# Altium footprint library Imperial_Thru_Hole.PcbLib: 76 footprints (part 4 of 5)
Each footprint in its own frame and in the unit in brackets; x right, y up, seen from the top. Pads: shape width x height; smd on the part's side, far side on the other; paste and mask are expansions set on the pad; w line width, h text height; cw(c..) or ccw(c..) is an arc to the next point about the centre after c.
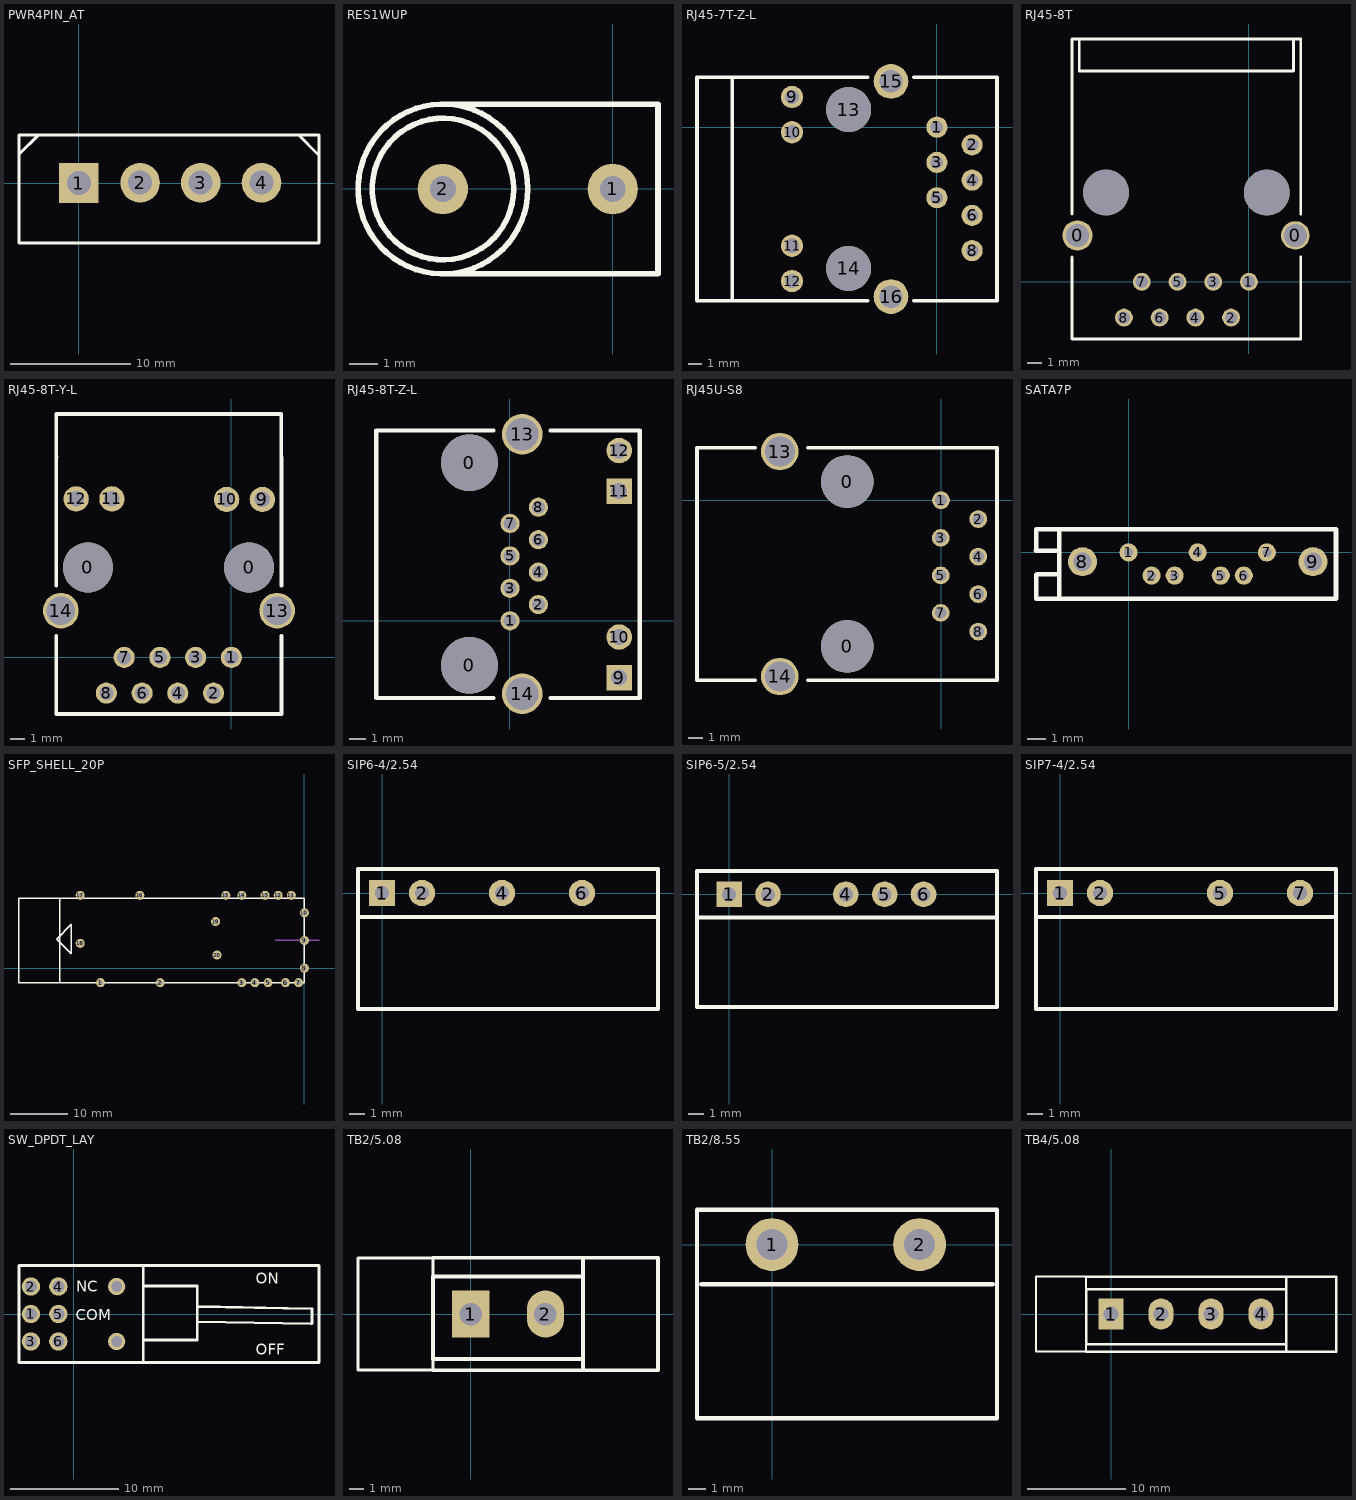
[diagram p3: the footprints below, top view; thin cyan lines are the x and y axes]

## PWR4PIN_AT [mm]
height 10
pads (4):
  rect 3.3x3.3 hole 2: 1(0,0)
  round 3.3 hole 2: 2(5.105,0.025) 3(10.16,0.025) 4(15.24,0.025)
Top Overlay:
  lines w0.254: -5.008,-5 20.041,-5 20.041,4 -4.962,4 ; -5,-5 -5,4 ; -5,2.4 -3.4,4 ; 18.364,3.988 19.964,2.388 ; 19.6,4 19.6,4

## RES1WUP [mil] "立式1W功率电阻"
height 472.44
pads (2):
  round 70 hole 36: 1(0,0) 2(-236.22,0)
Top Overlay:
  circle w7.87: c-236.22,0 r98.43
  circle w7.87: c-236.22,0 r118.11
  lines w7.87: -236.23,-118.12 62.99,-118.12 62.99,118.11 -236.22,118.11

## RJ45-7T-Z-L [mm] "HR871159防雷带磁体LEDRJ45座"
height 15.71
pads (15):
  round 1.524 hole 0.89: 1(0,0) 2(2.54,-1.27) 3(0,-2.54) 4(2.54,-3.81) 5(0,-5.08) 6(2.54,-6.35) 8(2.54,-8.89)
  round 1.6 hole 1.02: 9(-10.43,2.175) 10(-10.43,-0.365) 11(-10.43,-8.535) 12(-10.43,-11.075)
  round 3.25 hole 3.25 unplated: 13(-6.35,1.265) 14(-6.35,-10.165)
  round 2.5 hole 1.63: 15(-3.3,3.295) 16(-3.3,-12.195)
Top Overlay:
  lines w0.254: -14.732,-12.451 -14.732,3.551 ; -4.961,-12.5 -17.27,-12.5 -17.27,3.6 -4.961,3.6 ; -1.659,-12.5 4.33,-12.5 4.33,3.6 -1.659,3.6
3D body "User Library-RMS-001L-08A0-GY.STEP": height 3.3, standoff -13.5, extent -17,-12.446 4.3,3.554

## RJ45-8T [mil]
pads (12):
  round 85 hole 64: 0(-480,130)
  round 80 hole 64: 0(130,130)
  round 50 hole 35: 1(0,0) 2(-50,-100) 3(-100,0) 4(-150,-100) 5(-200,0) 6(-250,-100) 7(-300,0) 8(-350,-100)
  round 128 hole 128 unplated: ""(-400,250) ""(50,250)
Top Overlay:
  lines w8: -495,70 -495,-160 -275,-160 145,-160 145,70 ; -495,190 -495,680 -175,680 145,680 145,190 ; -475,680 -475,590 125,590 125,680

## RJ45-8T-Y-L [mm] "带磁芯LED的RJ45座"
height 14.2
pads (16):
  round 3.556 hole 3.556 unplated: 0(-10.197,6.392) 0(1.253,6.392)
  round 1.5 hole 1: 1(0,0) 2(-1.27,-2.54) 3(-2.54,0) 4(-3.81,-2.54) 5(-5.08,0) 6(-6.35,-2.54) 7(-7.62,0) 8(-8.89,-2.54)
  round 1.8 hole 1.1: 9(2.2,11.224) 10(-0.34,11.224) 11(-8.492,11.264) 12(-11.032,11.264)
  round 2.54 hole 2.032: 13(3.253,3.317) 14(-12.122,3.317)
Top Overlay:
  lines w0.254: -12.464,-4.025 3.55,-4.025 ; -12.443,-3.975 -12.443,1.524 ; -12.443,5.08 -12.443,14.231 ; -12.425,14.225 -12.45,14.25 -12.45,17.3 3.55,17.3 3.55,14.25 ; 3.564,-4.025 3.564,1.524 ; 3.564,5.08 3.564,14.237

## RJ45-8T-Z-L [mm] "下联型，带灯"
height 14.2
pads (16):
  round 3.556 hole 3.556 unplated: 0(-2.522,-2.788) 0(-2.522,9.912)
  round 1.2 hole 0.8: 1(0.018,0.006) 2(1.796,1.022) 3(0.018,2.038) 4(1.796,3.054) 5(0.018,4.07) 6(1.796,5.086) 7(0.018,6.102) 8(1.796,7.118)
  rect 1.6x1.6 hole 1: 9(6.858,-3.556) 11(6.858,8.128)
  round 1.6 hole 1: 10(6.858,-1.016) 12(6.858,10.668)
  round 2.54 hole 2.032: 13(0.78,11.69) 14(0.78,-4.566)
Top Overlay:
  lines w0.254: -1.016,-4.826 -8.364,-4.826 -8.364,11.938 -1.016,11.938 ; 2.54,-4.826 8.146,-4.826 8.146,11.938 2.54,11.938
3D body: height 7.62, standoff 6.1, extent -9.144,-3.302 -8.382,-0.635
3D body: height 7.62, standoff 6.1, extent -9.144,7.62 -8.382,10.287
3D body: height 9.14, standoff 0.03, extent -8.636,-3.81 7.62,11.43
3D body: height 3.56, standoff 2.03, extent -9.144,-2.921 -8.382,10.033

## RJ45U-S8 [mm] "上联型，不带灯"
height 14.2
pads (12):
  round 3.556 hole 3.556 unplated: 0(-6.35,-9.906) 0(-6.35,1.27)
  round 1.2 hole 0.8: 1(0,0) 2(2.522,-1.276) 3(-0.018,-2.546) 4(2.522,-3.816) 5(-0.018,-5.086) 6(2.522,-6.356) 7(-0.018,-7.626) 8(2.522,-8.896)
  round 2.54 hole 2.032: 13(-10.922,3.302) 14(-10.922,-11.938)
Top Overlay:
  lines w0.254: -12.582,-12.192 -16.528,-12.192 -16.528,3.556 -12.582,3.556 ; -9.026,-12.192 3.792,-12.192 3.792,3.556 -9.026,3.556
3D body: height 9.14, standoff 0.03, extent -16.51,-11.938 3.81,3.302
3D body: height 7.62, standoff 6.1, extent -17.018,-11.049 -16.256,1.905

## SATA7P [mm]
height 8.5
pads (9):
  round 1 hole 0.5: 1(0,0) 2(1.27,-1.27) 3(2.54,-1.27) 4(3.81,0) 5(5.08,-1.27) 6(6.35,-1.27) 7(7.62,0)
  round 1.6 hole 1: 8(-2.54,-0.508) 9(10.16,-0.508)
Top Overlay:
  lines w0.254: -3.81,-1.2 -5.06,-1.2 -5.08,-1.22 -5.08,-2.54 -3.81,-2.54 ; -3.81,0.1 -5.1,0.1 -5.08,0.12 -5.08,1.27 -3.81,1.27 ; -3.81,-2.54 11.43,-2.54 11.43,1.27 -3.81,1.27 ; -3.81,-2.54 -3.81,1.27
3D body: height 6.35, standoff 4.57, extent 0.254,-1.587 6.604,-0.953
3D body: height 6.6, standoff 4.57, extent -0.127,-1.079 6.858,0.064
3D body: height 6.35, standoff 4.57, extent 0.254,0 6.604,0.635
3D body: height 4.06, standoff 0.51, extent -3.556,-2.286 11.176,1.016

## SFP_SHELL_20P [mil] "SFP笼子20针"
height 600
pads (20):
  round 62 hole 30: 1(-1400,-100) 2(-990,-100) 3(-430,-100) 4(-340,-100) 5(-250,-100) 6(-130,-100) 7(-40,-100) 8(0,0) 9(0,190) 10(0,380) 11(-90,500) 12(-180,500) 13(-270,500) 14(-430,500) 15(-540,500) 16(-1130,500) 17(-1540,500) 18(-1540,170) 19(-610,320) 20(-600,90)
Top Overlay:
  lines w10: -1680,-100 -1680,480 ; -1960,-100 -1960,480 0,480 0,-100 -1960,-100 ; -1700,200 -1600,300 -1600,100 -1700,200
Mechanical 13:
  lines w10: -200,190 100,190
3D body: height 400, standoff 390, extent -1960,-100 0,480
3D body: height 400, standoff 1, extent -1960,470 0,480
3D body: height 400, standoff 1, extent -1960,-100 0,-90

## SIP6-4/2.54 [mil] "DC隔离模块,单路"
height 393.7
pads (4):
  rect 66x66 hole 36: 1(0,0)
  round 66 hole 36: 2(100,0) 4(300,0) 6(500,0)
Top Overlay:
  lines w10: -60,-60 690,-60 ; -60,-290 690,-290 690,60 -60,60 -60,-290

## SIP6-5/2.54 [mil] "DC隔离模块，正负双路"
height 393.7
pads (5):
  rect 66x66 hole 36: 1(0,0)
  round 66 hole 36: 2(100,0) 4(300,0) 5(400,0) 6(500,0)
Top Overlay:
  lines w10: -82.68,-60 688.98,-60 ; -82.68,-290 688.98,-290 688.98,60 -82.68,60 -82.68,-290

## SIP7-4/2.54 [mil] "夏普光耦SIP7封装"
height 10
pads (4):
  rect 66x66 hole 36: 1(0,0)
  round 66 hole 36: 2(100,0) 5(400,0) 7(600,0)
Top Overlay:
  lines w10: -60,-60 690,-60 ; -60,-290 -60,60 690,60 690,-290 -60,-290

## SW_DPDT_LAY [mm] "卧式2x2扭子开关"
height 8
pads (8):
  round 1.7 hole 1.1: 1(-3.97,0.01) 2(-3.97,2.55) 3(-3.97,-2.53) 4(-1.43,2.55) 5(-1.43,0.01) 6(-1.43,-2.53)
  round 1.6 hole 1: ""(3.97,-2.53) ""(3.97,2.55)
Top Overlay:
  lines w0.254: 6.43,-4.49 6.43,4.51 ; 6.43,-2.4 11.43,-2.4 ; 6.43,2.6 11.43,2.6 11.43,-2.4 ; 11.375,-2.345 11.43,-2.4 ; 11.43,0.7 22,0.5 ; 11.45,-0.7 22,-0.9 ; 22.05,-0.875 22.05,0.5 ; -5.07,-4.49 -5.07,4.51 22.7,4.51 22.7,-4.49 -5.07,-4.49
  text "OFF" at 16.85,-3.775 h1
  text "NC" at 0.25,2.075 h1
  text "COM" at 0.2,-0.55 h1
  text "ON" at 16.85,2.825 h1

## TB2/5.08 [mil] "菲尼克斯2pin座patch=5.08mm/200mil"
height 120
pads (2):
  rect 100x125 hole 60: 1(0,0)
  oval 100x125 hole 60: 2(200,0)
Top Overlay:
  lines w8: -100,-150 -100,150 ; -100,-150 -300,-150 -300,-100 -300,100 -300,150 -100,150 ; -100,-150 -100,150
  lines w10: -100,-150 500,-150 500,150 -100,150 ; 300,-150 300,150 ; 300,-120 -100,-120 -100,100 300,100
3D body: height 320, standoff 280, extent -260,-310 500,130
3D body: height 320, standoff 1, extent 420,-305 500,145
3D body: height 320, standoff 1, extent -300,-310 -220,140
3D body: height 320, standoff 1, extent -295,-20 500,140
3D body: height 40, standoff 1, extent -300,-310 500,130
3D body: height 199.92, standoff 120.08, extent -39.68,-280 40,20
3D body: height 199.92, standoff 120.08, extent 160.32,-280 240,20

## TB2/8.55 [mil] "8.55mm间距，PCB接线端子"
height 472.44
pads (2):
  round 120 hole 70: 1(0,0) 2(334.65,0)
Top Overlay:
  lines w10: -160,-90 500,-90 ; -170,-393.7 510,-393.7 510,78.74 -170,78.74 -170,-393.7

## TB4/5.08 [mil] "菲尼克斯4pin座patch=5.08mm/200mil"
height 120
pads (4):
  rect 100x125 hole 60: 1(0,0)
  oval 100x125 hole 60: 2(200,0) 3(400,0) 4(600,0)
Top Overlay:
  lines w8: -100,-150 -100,150 ; -100,-150 -300,-150 -300,-100 -300,100 -300,150 -100,150 ; -100,-150 -100,150
  lines w10: -100,-150 900,-150 900,150 -100,150 ; 700,-150 700,-120 ; 700,100 -100,100 -100,-120 700,-120 ; 700,150 700,-120
3D body: height 320, standoff 280, extent -260,-310 900,130
3D body: height 320, standoff 1, extent 820,-310 900,140
3D body: height 320, standoff 1, extent -300,-310 -220,140
3D body: height 320, standoff 1, extent -295,-20 900,140
3D body: height 40, standoff 1, extent -300,-310 900,130
3D body: height 199.92, standoff 120.08, extent -39.68,-280 40,20
3D body: height 199.92, standoff 120.08, extent 160.32,-280 240,20
3D body: height 199.92, standoff 120.08, extent 360.32,-280 440,20
3D body: height 199.92, standoff 120.08, extent 560.32,-280 640,20